# Altium footprint library 006-Buzzer.PcbLib: 3 footprints
Each footprint in its own frame and in the unit in brackets; x right, y up, seen from the top. Pads: shape width x height; smd on the part's side, far side on the other; paste and mask are expansions set on the pad; w line width, h text height; cw(c..) or ccw(c..) is an arc to the next point about the centre after c.
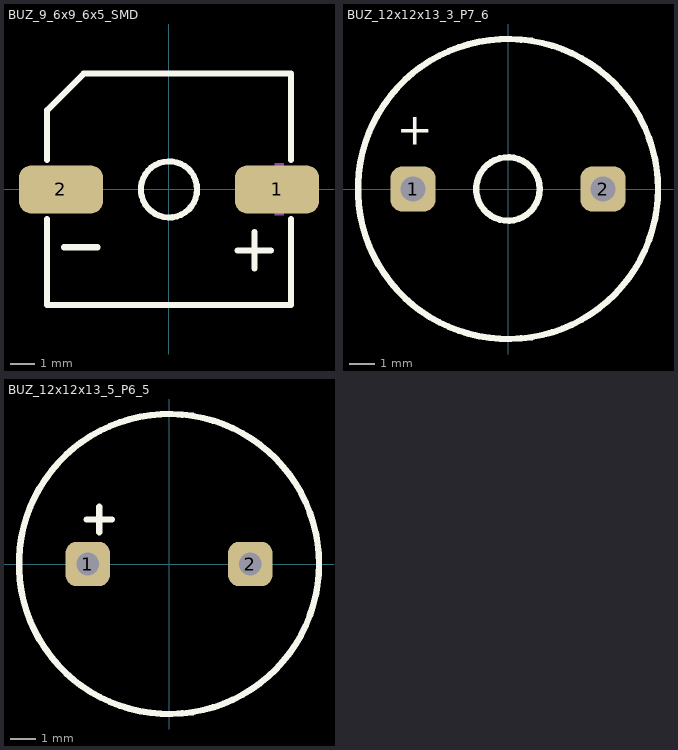
[diagram p0: the footprints below, top view; thin cyan lines are the x and y axes]

## BUZ_9_6x9_6x5_SMD [mm] "BUZ_9_6x9_6x5_SMD-L=9.6mm/W=9.6mm/H=5.0mm"
height 5
pads (2):
  rrect50% 3.5x2 smd: 1(4.5,0) 2(-4.5,0)
Top Overlay:
  circle w0.254: c0.001,0 r1.171
  lines w0.254: -5.079,-1.232 -5.079,-4.826 5.081,-4.826 5.081,-1.231 ; -5.079,1.232 -5.079,3.302 -3.555,4.826 5.081,4.826 5.081,1.231 ; -4.381,-2.413 -2.984,-2.413 ; 2.858,-2.54 4.255,-2.54 ; 3.557,-3.302 3.557,-1.778
Mechanical 6:
  region: -5.508,0.191 -3.349,0.191 -3.349,-0.191 -5.508,-0.191
  region: 4.41,-1.07 4.41,1.089 4.791,1.089 4.791,-1.07
  region: 3.493,0.191 5.652,0.191 5.652,-0.191 3.493,-0.191
Mechanical 15:
  region: 5.06,4.8 5.059,4.824 5.024,4.858 4.976,4.858 4.941,4.824 4.94,4.8 4.941,4.776 4.976,4.742 5.024,4.742 5.059,4.776
3D body "BUZ_9_6x9_6x5_SMD.step": height 4.92, standoff -0.03, extent -5,-4.81 5,4.8

## BUZ_12x12x13_3_P7_6 [mm] "BUZ_12x12x13_3-L=12mm/W=12mm/H=13.3mm-引脚间距P=7.6mm"
height 13.3
pads (2):
  rrect50% 1.8x1.8 hole 1: 1(-3.8,0) 2(3.8,0)
Top Overlay:
  circle w0.254: c0,0 r1.27
  circle w0.254: c0,0 r6
  text "+" at -4.445,1.765 h1.27
3D body "BUZ_12x12x13_3_P7_6.step": height 9.54, standoff -4.47, extent -6.02,-5.99 5.977,6

## BUZ_12x12x13_5_P6_5 [mil] "BUZ_12x12x13_5-L=12mm/W=12mm/H=13.5mm-引脚间距P=6.5mm"
height 531.5
pads (2):
  rrect50% 70x70 hole 35.43: 1(-128,0) 2(128,0)
Top Overlay:
  circle w10: c0,0 r236.2
  lines w10: -130,70 -90,70 ; -110,50 -110,90
3D body "BUZ_12x12x13_5.step": height 336.03, standoff -176.17, extent -236.22,-235.84 236.1,236.22